# Altium schematic symbol library 0436500215.SchLib: 1 symbol
Pins are listed as number, name and electrical type; pins without a type are passive.

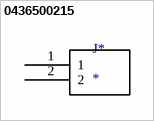
[diagram p0: symbol 0436500215]

## 0436500215
designator J*
pins: 1, 2